# Altium footprint library PCB_Capacitors.PcbLib: 5 footprints
Each footprint in its own frame and in the unit in brackets; x right, y up, seen from the top. Pads: shape width x height; smd on the part's side, far side on the other; paste and mask are expansions set on the pad; w line width, h text height; cw(c..) or ccw(c..) is an arc to the next point about the centre after c.
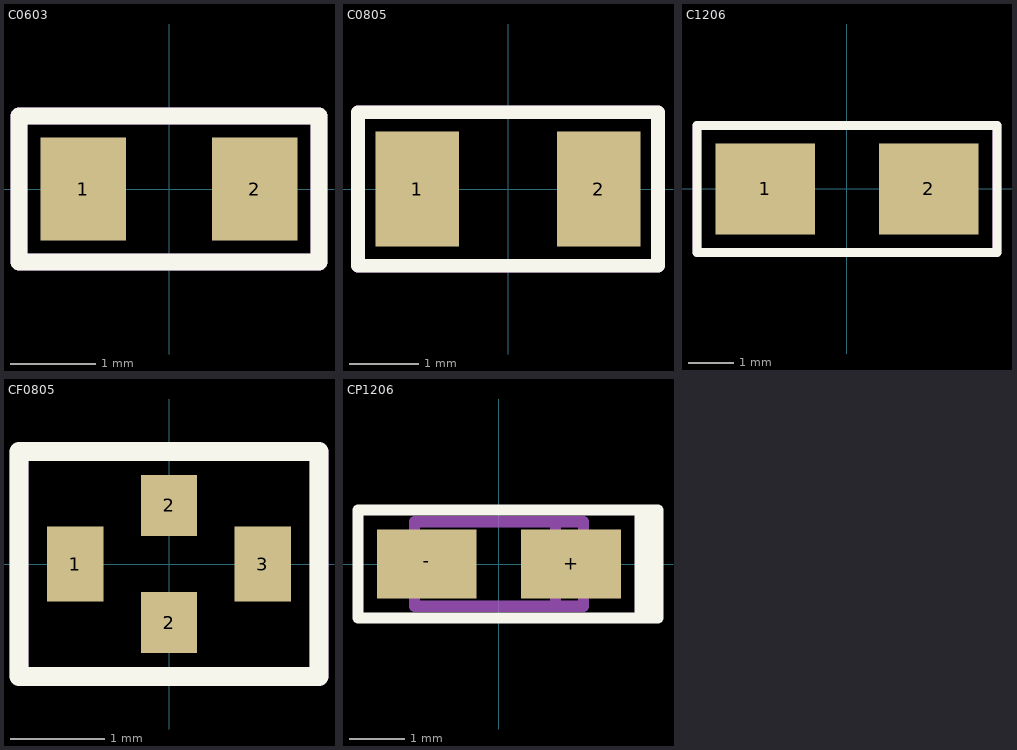
[diagram p0: the footprints below, top view; thin cyan lines are the x and y axes]

## C0603 [mm]
pads (2):
  rect 1x1.2 smd: 1(-1,0) 2(1,0)
Top Overlay:
  lines w0.2: -1.75,-0.85 -1.75,0.85 1.75,0.85 1.75,-0.85 -1.75,-0.85
Top Assembly:
  lines w0.2: -1.75,-0.85 -1.75,0.85 1.75,0.85 1.75,-0.85 -1.75,-0.85
  text ".Designator" at -3.499,-0.233 h0.7
3D body "C0603.STEP": height 0.91, standoff 0.01, extent -0.8,-0.4 0.8,0.4

## C0805 [mm]
pads (2):
  rect 1.2x1.65 smd: 1(-1.3,0) 2(1.3,0)
Top Overlay:
  lines w0.2: -2.15,-1.1 -2.15,1.1 2.15,1.1 2.15,-1.1 -2.15,-1.1
Top Assembly:
  lines w0.2: -2.15,-1.1 -2.15,1.1 2.15,1.1 2.15,-1.1 -2.15,-1.1
  text ".Designator" at -3.499,-0.233 h0.7
3D body "C0805.STEP": height 1.35, standoff 0, extent -1,-0.625 1,0.625

## C1206 [mm]
pads (2):
  rect 2.2x2 smd: 1(-1.8,0) 2(1.8,0)
Top Overlay:
  lines w0.2: -3.302,-1.397 3.302,-1.397 3.302,1.397 -3.302,1.397 -3.302,-1.397
Top Assembly:
  lines w0.2: -3.302,-1.397 3.302,-1.397 3.302,1.397 -3.302,1.397 -3.302,-1.397
  text ".Designator" at -3.499,-0.233 h0.7
3D body "C1206.STEP": height 1.8, standoff 0, extent -1.6,-0.8 1.6,0.8

## CF0805 [mm]
pads (4):
  rect 0.6x0.8 smd: 1(-1,0) 3(1,0)
  rect 0.6x0.65 smd: 2(0,-0.625) 2(0,0.625)
Top Overlay:
  lines w0.2: -1.6,-1.2 1.6,-1.2 1.6,1.2 -1.6,1.2 -1.6,-1.2
Top Assembly:
  lines w0.2: -1.6,-1.2 1.6,-1.2 1.6,1.2 -1.6,1.2 -1.6,-1.2
  text ".Designator" at -3.499,-0.233 h0.7
3D body "CF0805.STEP": height 0.95, standoff 0, extent -1,-0.625 1,0.625

## CP1206 [mm]
pads (2):
  rect 1.8x1.25 smd: +(1.3,0) -(-1.3,0)
Top Overlay:
  lines w0.2: 2.54,-0.976 2.54,0.976 ; 2.7,-0.976 2.7,0.976 ; -2.54,-0.976 -2.54,0.976 2.867,0.976 2.867,-0.976 -2.54,-0.976
Top Assembly:
  lines w0.2: 1.016,-0.762 1.016,0.762 ; -1.524,-0.762 -1.524,0.762 1.524,0.762 1.524,-0.762 -1.524,-0.762
  text ".Designator" at -3.753,-0.233 h0.7
3D body "CP1206.STEP": height 1.81, standoff 0.01, extent -1.6,-0.8 1.6,0.8